# EAGLE library part LCD-20X4B (library LCD-20X4B)
Display Development Tools 20X4 CHARACTER BLUE LCD W/BACKLIGHT Check availability <https://pricing.snapeda.com/parts/LCD-20X4B/Gravitech/view-part?ref=eda>
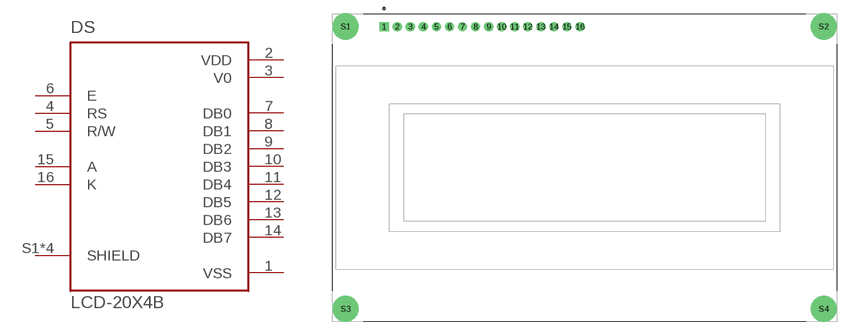
[diagram p0: symbol with the pads of LCD_LCD-20X4B; footprint LCD_LCD-20X4B]

Designator prefix DS

## LCD-20X4B (Availability: In Stock; Description: Display Development Tools 20X4 CHARACTER BLUE LCD W/BACKLIGHT; MF: Gravitech; MP: LCD-20X4B; Package: None; Price: None)  [LCD_LCD-20X4B]
1  VSS  pwr
2  VDD  pwr
3  V0  pwr
4  RS  in
5  R/W  in
6  E  in
7  DB0
8  DB1
9  DB2
10  DB3
11  DB4
12  DB5
13  DB6
14  DB7
15  A  pas
16  K  pas
S1  SHIELD  pas
S2  SHIELD  pas
S3  SHIELD  pas
S4  SHIELD  pas

## Footprint LCD_LCD-20X4B (pad centres in mm)
drill 1.2 pad 1.8 square: 1 -39,27.46
drill 1.2 pad 1.8: 2 -36.46,27.46; 3 -33.92,27.46; 4 -31.38,27.46; 5 -28.84,27.46; 6 -26.3,27.46; 7 -23.76,27.46; 8 -21.22,27.46; 9 -18.68,27.46; 10 -16.14,27.46; 11 -13.6,27.46; 12 -11.06,27.46; 13 -8.52,27.46; 14 -5.98,27.46; 15 -3.44,27.46; 16 -0.9,27.46
drill 3.4 pad 5.1: S1 -46.5,27.5; S2 46.5,27.5; S3 -46.5,-27.5; S4 46.5,-27.5